# EAGLE library part TMM-116-XX-X-D (library con-samtec-tmm)
HEADER
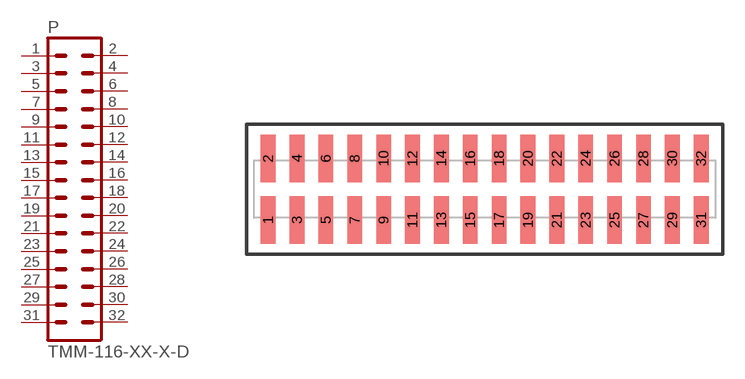
[diagram p13: symbol with the pads of TMM-116-XX-X-D; footprint TMM-116-XX-X-D]

Designator prefix P

## TMM-116-XX-X-D  [TMM-116-XX-X-D]
1  1  pas
2  2  pas
3  3  pas
4  4  pas
5  5  pas
6  6  pas
7  7  pas
8  8  pas
9  9  pas
10  10  pas
11  11  pas
12  12  pas
13  13  pas
14  14  pas
15  15  pas
16  16  pas
17  17  pas
18  18  pas
19  19  pas
20  20  pas
21  21  pas
22  22  pas
23  23  pas
24  24  pas
25  25  pas
26  26  pas
27  27  pas
28  28  pas
29  29  pas
30  30  pas
31  31  pas
32  32  pas

## Footprint TMM-116-XX-X-D (pad centres in mm)
HEADER
smd 1.02 x 3.3: 1 -15,-2.134; 2 -15,2.134; 3 -13,-2.134; 4 -13,2.134; 5 -11,-2.134; 6 -11,2.134; 7 -9,-2.134; 8 -9,2.134; 9 -7,-2.134; 10 -7,2.134; 11 -5,-2.134; 12 -5,2.134; 13 -3,-2.134; 14 -3,2.134; 15 -1,-2.134; 16 -1,2.134; 17 1,-2.134; 18 1,2.134; 19 3,-2.134; 20 3,2.134; 21 5,-2.134; 22 5,2.134; 23 7,-2.134; 24 7,2.134; 25 9,-2.134; 26 9,2.134; 27 11,-2.134; 28 11,2.134; 29 13,-2.134; 30 13,2.134; 31 15,-2.134; 32 15,2.134